# Altium footprint library J 接插件.PcbLib: 458 footprints (part 29 of 29)
Each footprint in its own frame and in the unit in brackets; x right, y up, seen from the top. Pads: shape width x height; smd on the part's side, far side on the other; paste and mask are expansions set on the pad; w line width, h text height; cw(c..) or ccw(c..) is an arc to the next point about the centre after c.
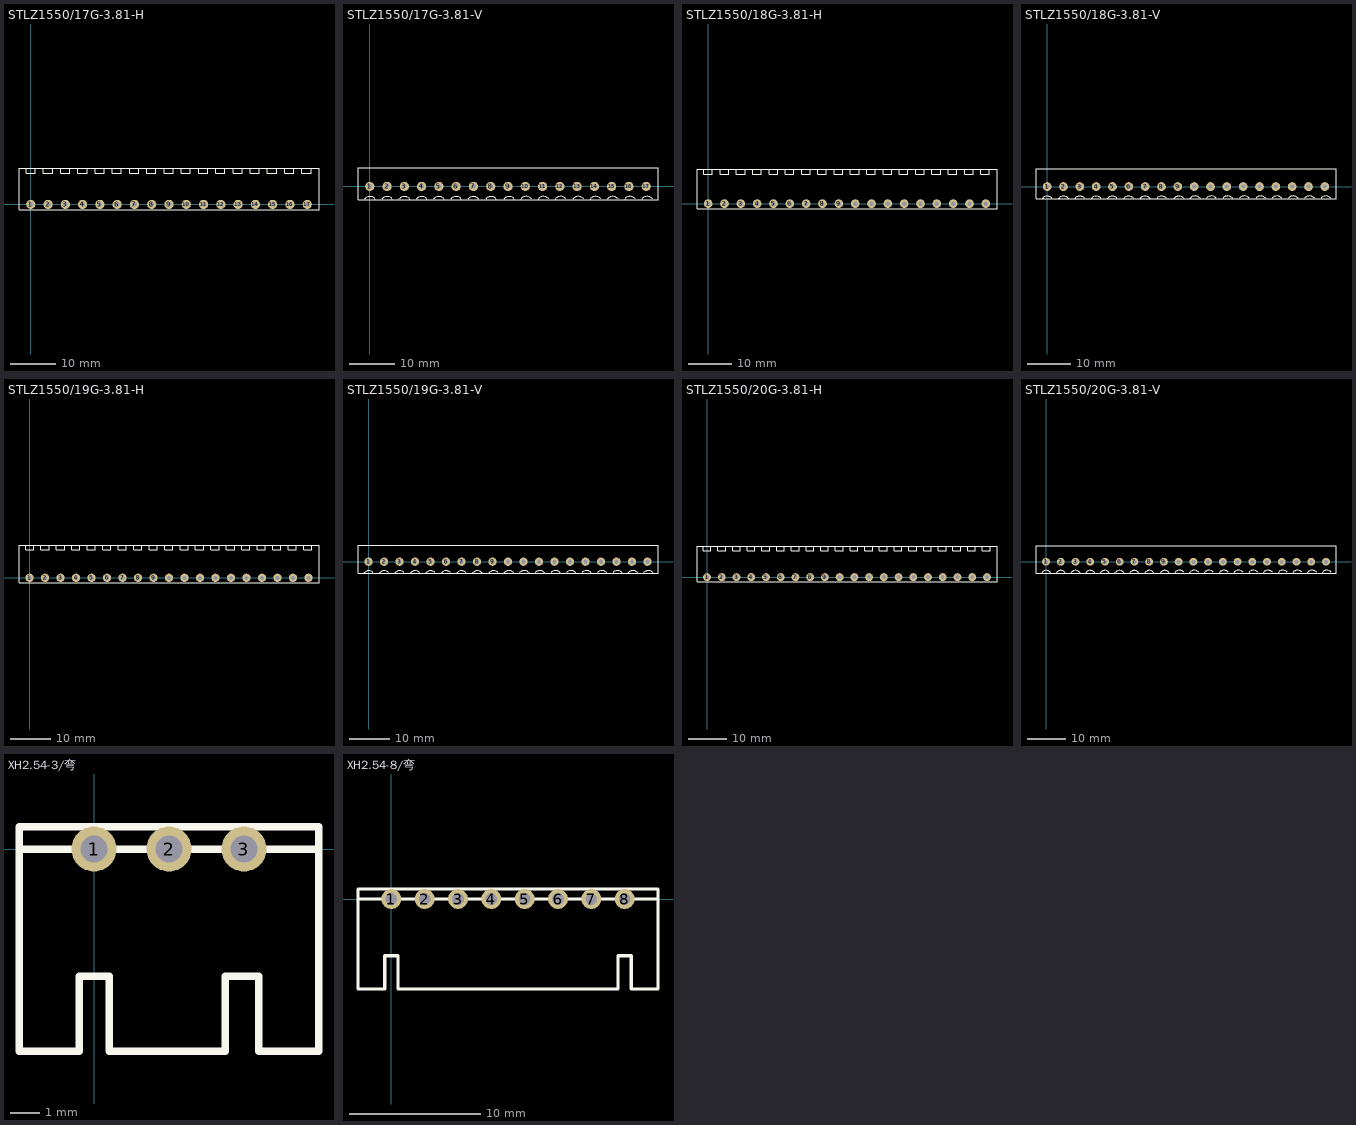
[diagram p28: the footprints below, top view; thin cyan lines are the x and y axes]

## STLZ1550/17G-3.81-H [mil] "美卡诺 STLZ1550 接触件座  间距：3.81   17Pin   弯角"
height 275.59
pads (17):
  round 80 hole 40: 1(0,0) 2(150,0) 3(300,0) 4(450,0) 5(600,0) 6(750,0) 7(900,0) 8(1050,0) 9(1200,0) 10(1350,0) 11(1500,0) 12(1650,0) 13(1800,0) 14(1950,0) 15(2100,0) 16(2250,0) 17(2400,0)
Top Overlay:
  lines w10: -39.37,311.26 -39.37,271.26 39.37,271.26 39.37,311.26 ; 110.24,311.26 110.24,271.26 188.98,271.26 188.98,311.26 ; 259.84,311.26 259.84,271.26 338.58,271.26 338.58,311.26 ; 409.45,311.26 409.45,271.26 488.19,271.26 488.19,311.26 ; 559.06,311.26 559.06,271.26 637.8,271.26 637.8,311.26 ; 708.66,311.26 708.66,271.26 787.4,271.26 787.4,311.26 ; 858.27,311.26 858.27,271.26 937.01,271.26 937.01,311.26 ; 1007.87,311.26 1007.87,271.26 1086.61,271.26 1086.61,311.26 ; 1157.48,311.26 1157.48,271.26 1236.22,271.26 1236.22,311.26 ; 1307.09,311.26 1307.09,271.26 1385.83,271.26 1385.83,311.26 ; 1456.69,311.26 1456.69,271.26 1535.43,271.26 1535.43,311.26 ; 1606.3,311.26 1606.3,271.26 1685.04,271.26 1685.04,311.26 ; 1755.91,311.26 1755.91,271.26 1834.65,271.26 1834.65,311.26 ; 1905.51,311.26 1905.51,271.26 1984.25,271.26 1984.25,311.26 ; 2055.12,311.26 2055.12,271.26 2133.86,271.26 2133.86,311.26 ; 2204.72,311.26 2204.72,271.26 2283.46,271.26 2283.46,311.26 ; 2354.33,311.26 2354.33,271.26 2433.07,271.26 2433.07,311.26 ; -102.36,-47.24 2502.36,-47.24 2502.36,314.96 -102.36,314.96 -102.36,-47.24

## STLZ1550/17G-3.81-V [mil] "美卡诺 STLZ1550 接触件座  间距：3.81   17Pin"
height 610.24
pads (17):
  round 80 hole 40: 1(0,0) 2(150,0) 3(300,0) 4(450,0) 5(600,0) 6(750,0) 7(900,0) 8(1050,0) 9(1200,0) 10(1350,0) 11(1500,0) 12(1650,0) 13(1800,0) 14(1950,0) 15(2100,0) 16(2250,0) 17(2400,0)
Top Overlay:
  lines w10: -46.11,-111.69 cw(c1.13,-147.13) 47.24,-110.24 ; 103.49,-111.69 cw(c150.74,-147.13) 196.85,-110.24 ; 253.1,-111.69 cw(c300.34,-147.13) 346.46,-110.24 ; 402.7,-111.69 cw(c449.95,-147.13) 496.06,-110.24 ; 552.31,-111.69 cw(c599.55,-147.13) 645.67,-110.24 ; 701.92,-111.69 cw(c749.16,-147.13) 795.28,-110.24 ; 851.52,-111.69 cw(c898.77,-147.13) 944.88,-110.24 ; 1005.07,-111.69 cw(c1052.31,-147.13) 1098.43,-110.24 ; 1162.55,-111.69 cw(c1209.79,-147.13) 1255.91,-110.24 ; 1310.97,-110.12 cw(c1358.22,-145.55) 1404.33,-108.66 ; 1460.58,-110.12 cw(c1507.82,-145.55) 1553.94,-108.66 ; 1610.18,-110.12 cw(c1657.43,-145.55) 1703.54,-108.66 ; 1763.73,-110.12 cw(c1810.97,-145.55) 1857.09,-108.66 ; 1913.33,-110.12 cw(c1960.58,-145.55) 2006.69,-108.66 ; 2062.94,-110.12 cw(c2110.18,-145.55) 2156.3,-108.66 ; 2212.55,-110.12 cw(c2259.79,-145.55) 2305.91,-108.66 ; 2362.15,-110.12 cw(c2409.4,-145.55) 2455.51,-108.66 ; -102.36,-114.17 2502.36,-114.17 2502.36,161.42 -102.36,161.42 -102.36,-114.17

## STLZ1550/18G-3.81-H [mil] "美卡诺 STLZ1550 接触件座  间距：3.81   18Pin   弯角"
height 275.59
pads (18):
  round 80 hole 40: 1(0,0) 2(150,0) 3(300,0) 4(450,0) 5(600,0) 6(750,0) 7(900,0) 8(1050,0) 9(1200,0) 10(1350,0) 11(1500,0) 12(1650,0) 13(1800,0) 14(1950,0) 15(2100,0) 16(2250,0) 17(2400,0) 18(2550,0)
Top Overlay:
  lines w10: -39.37,311.26 -39.37,271.26 39.37,271.26 39.37,311.26 ; 110.24,311.26 110.24,271.26 188.98,271.26 188.98,311.26 ; 259.84,311.26 259.84,271.26 338.58,271.26 338.58,311.26 ; 409.45,311.26 409.45,271.26 488.19,271.26 488.19,311.26 ; 559.06,311.26 559.06,271.26 637.8,271.26 637.8,311.26 ; 708.66,311.26 708.66,271.26 787.4,271.26 787.4,311.26 ; 858.27,311.26 858.27,271.26 937.01,271.26 937.01,311.26 ; 1007.87,311.26 1007.87,271.26 1086.61,271.26 1086.61,311.26 ; 1157.48,311.26 1157.48,271.26 1236.22,271.26 1236.22,311.26 ; 1307.09,311.26 1307.09,271.26 1385.83,271.26 1385.83,311.26 ; 1456.69,311.26 1456.69,271.26 1535.43,271.26 1535.43,311.26 ; 1606.3,311.26 1606.3,271.26 1685.04,271.26 1685.04,311.26 ; 1755.91,311.26 1755.91,271.26 1834.65,271.26 1834.65,311.26 ; 1905.51,311.26 1905.51,271.26 1984.25,271.26 1984.25,311.26 ; 2055.12,311.26 2055.12,271.26 2133.86,271.26 2133.86,311.26 ; 2204.72,311.26 2204.72,271.26 2283.46,271.26 2283.46,311.26 ; 2354.33,311.26 2354.33,271.26 2433.07,271.26 2433.07,311.26 ; 2503.94,311.26 2503.94,271.26 2582.68,271.26 2582.68,311.26 ; -102.36,-47.24 2652.36,-47.24 2652.36,314.96 -102.36,314.96 -102.36,-47.24

## STLZ1550/18G-3.81-V [mil] "美卡诺 STLZ1550 接触件座  间距：3.81   18Pin"
height 610.24
pads (18):
  round 80 hole 40: 1(0,0) 2(150,0) 3(300,0) 4(450,0) 5(600,0) 6(750,0) 7(900,0) 8(1050,0) 9(1200,0) 10(1350,0) 11(1500,0) 12(1650,0) 13(1800,0) 14(1950,0) 15(2100,0) 16(2250,0) 17(2400,0) 18(2550,0)
Top Overlay:
  lines w10: -46.11,-111.69 cw(c1.13,-147.13) 47.24,-110.24 ; 103.49,-111.69 cw(c150.74,-147.13) 196.85,-110.24 ; 253.1,-111.69 cw(c300.34,-147.13) 346.46,-110.24 ; 402.7,-111.69 cw(c449.95,-147.13) 496.06,-110.24 ; 552.31,-111.69 cw(c599.55,-147.13) 645.67,-110.24 ; 701.92,-111.69 cw(c749.16,-147.13) 795.28,-110.24 ; 851.52,-111.69 cw(c898.77,-147.13) 944.88,-110.24 ; 1005.07,-111.69 cw(c1052.31,-147.13) 1098.43,-110.24 ; 1162.55,-111.69 cw(c1209.79,-147.13) 1255.91,-110.24 ; 1310.97,-110.12 cw(c1358.22,-145.55) 1404.33,-108.66 ; 1460.58,-110.12 cw(c1507.82,-145.55) 1553.94,-108.66 ; 1610.18,-110.12 cw(c1657.43,-145.55) 1703.54,-108.66 ; 1763.73,-110.12 cw(c1810.97,-145.55) 1857.09,-108.66 ; 1913.33,-110.12 cw(c1960.58,-145.55) 2006.69,-108.66 ; 2062.94,-110.12 cw(c2110.18,-145.55) 2156.3,-108.66 ; 2212.55,-110.12 cw(c2259.79,-145.55) 2305.91,-108.66 ; 2362.15,-110.12 cw(c2409.4,-145.55) 2455.51,-108.66 ; 2511.76,-110.12 cw(c2559,-145.55) 2605.12,-108.66 ; -102.36,-114.17 -102.36,161.42 2652.36,161.42 2652.36,-114.17 -102.36,-114.17

## STLZ1550/19G-3.81-H [mil] "美卡诺 STLZ1550 接触件座  间距：3.81   19Pin   弯角"
height 275.59
pads (19):
  round 80 hole 40: 1(0,0) 2(150,0) 3(300,0) 4(450,0) 5(600,0) 6(750,0) 7(900,0) 8(1050,0) 9(1200,0) 10(1350,0) 11(1500,0) 12(1650,0) 13(1800,0) 14(1950,0) 15(2100,0) 16(2250,0) 17(2400,0) 18(2550,0) 19(2700,0)
Top Overlay:
  lines w10: -39.37,311.26 -39.37,271.26 39.37,271.26 39.37,311.26 ; 110.24,311.26 110.24,271.26 188.98,271.26 188.98,311.26 ; 259.84,311.26 259.84,271.26 338.58,271.26 338.58,311.26 ; 409.45,311.26 409.45,271.26 488.19,271.26 488.19,311.26 ; 559.06,311.26 559.06,271.26 637.8,271.26 637.8,311.26 ; 708.66,311.26 708.66,271.26 787.4,271.26 787.4,311.26 ; 858.27,311.26 858.27,271.26 937.01,271.26 937.01,311.26 ; 1007.87,311.26 1007.87,271.26 1086.61,271.26 1086.61,311.26 ; 1157.48,311.26 1157.48,271.26 1236.22,271.26 1236.22,311.26 ; 1307.09,311.26 1307.09,271.26 1385.83,271.26 1385.83,311.26 ; 1456.69,311.26 1456.69,271.26 1535.43,271.26 1535.43,311.26 ; 1606.3,311.26 1606.3,271.26 1685.04,271.26 1685.04,311.26 ; 1755.91,311.26 1755.91,271.26 1834.65,271.26 1834.65,311.26 ; 1905.51,311.26 1905.51,271.26 1984.25,271.26 1984.25,311.26 ; 2055.12,311.26 2055.12,271.26 2133.86,271.26 2133.86,311.26 ; 2204.72,311.26 2204.72,271.26 2283.46,271.26 2283.46,311.26 ; 2354.33,311.26 2354.33,271.26 2433.07,271.26 2433.07,311.26 ; 2503.94,311.26 2503.94,271.26 2582.68,271.26 2582.68,311.26 ; 2653.54,311.26 2653.54,271.26 2732.28,271.26 2732.28,311.26 ; -102.36,-47.24 2802.36,-47.24 2802.36,314.96 -102.36,314.96 -102.36,-47.24

## STLZ1550/19G-3.81-V [mil] "美卡诺 STLZ1550 接触件座  间距：3.81   19Pin"
height 610.24
pads (19):
  round 80 hole 40: 1(0,0) 2(150,0) 3(300,0) 4(450,0) 5(600,0) 6(750,0) 7(900,0) 8(1050,0) 9(1200,0) 10(1350,0) 11(1500,0) 12(1650,0) 13(1800,0) 14(1950,0) 15(2100,0) 16(2250,0) 17(2400,0) 18(2550,0) 19(2700,0)
Top Overlay:
  lines w10: -46.11,-111.69 cw(c1.13,-147.13) 47.24,-110.24 ; 103.49,-111.69 cw(c150.74,-147.13) 196.85,-110.24 ; 253.1,-111.69 cw(c300.34,-147.13) 346.46,-110.24 ; 402.7,-111.69 cw(c449.95,-147.13) 496.06,-110.24 ; 552.31,-111.69 cw(c599.55,-147.13) 645.67,-110.24 ; 701.92,-111.69 cw(c749.16,-147.13) 795.28,-110.24 ; 851.52,-111.69 cw(c898.77,-147.13) 944.88,-110.24 ; 1005.07,-111.69 cw(c1052.31,-147.13) 1098.43,-110.24 ; 1162.55,-111.69 cw(c1209.79,-147.13) 1255.91,-110.24 ; 1310.97,-110.12 cw(c1358.22,-145.55) 1404.33,-108.66 ; 1460.58,-110.12 cw(c1507.82,-145.55) 1553.94,-108.66 ; 1610.18,-110.12 cw(c1657.43,-145.55) 1703.54,-108.66 ; 1763.73,-110.12 cw(c1810.97,-145.55) 1857.09,-108.66 ; 1913.33,-110.12 cw(c1960.58,-145.55) 2006.69,-108.66 ; 2062.94,-110.12 cw(c2110.18,-145.55) 2156.3,-108.66 ; 2212.55,-110.12 cw(c2259.79,-145.55) 2305.91,-108.66 ; 2362.15,-110.12 cw(c2409.4,-145.55) 2455.51,-108.66 ; 2511.76,-110.12 cw(c2559,-145.55) 2605.12,-108.66 ; 2661.37,-110.12 cw(c2708.61,-145.55) 2754.72,-108.66 ; -102.36,-114.17 -102.36,161.42 2802.36,161.42 2802.36,-114.17 -102.36,-114.17

## STLZ1550/20G-3.81-H [mil] "美卡诺 STLZ1550 接触件座  间距：3.81   20Pin   弯角"
height 275.59
pads (20):
  round 80 hole 40: 1(0,0) 2(150,0) 3(300,0) 4(450,0) 5(600,0) 6(750,0) 7(900,0) 8(1050,0) 9(1200,0) 10(1350,0) 11(1500,0) 12(1650,0) 13(1800,0) 14(1950,0) 15(2100,0) 16(2250,0) 17(2400,0) 18(2550,0) 19(2700,0) 20(2850,0)
Top Overlay:
  lines w10: -39.37,311.26 -39.37,271.26 39.37,271.26 39.37,311.26 ; 110.24,311.26 110.24,271.26 188.98,271.26 188.98,311.26 ; 259.84,311.26 259.84,271.26 338.58,271.26 338.58,311.26 ; 409.45,311.26 409.45,271.26 488.19,271.26 488.19,311.26 ; 559.06,311.26 559.06,271.26 637.8,271.26 637.8,311.26 ; 708.66,311.26 708.66,271.26 787.4,271.26 787.4,311.26 ; 858.27,311.26 858.27,271.26 937.01,271.26 937.01,311.26 ; 1007.87,311.26 1007.87,271.26 1086.61,271.26 1086.61,311.26 ; 1157.48,311.26 1157.48,271.26 1236.22,271.26 1236.22,311.26 ; 1307.09,311.26 1307.09,271.26 1385.83,271.26 1385.83,311.26 ; 1456.69,311.26 1456.69,271.26 1535.43,271.26 1535.43,311.26 ; 1606.3,311.26 1606.3,271.26 1685.04,271.26 1685.04,311.26 ; 1755.91,311.26 1755.91,271.26 1834.65,271.26 1834.65,311.26 ; 1905.51,311.26 1905.51,271.26 1984.25,271.26 1984.25,311.26 ; 2055.12,311.26 2055.12,271.26 2133.86,271.26 2133.86,311.26 ; 2204.72,311.26 2204.72,271.26 2283.46,271.26 2283.46,311.26 ; 2354.33,311.26 2354.33,271.26 2433.07,271.26 2433.07,311.26 ; 2503.94,311.26 2503.94,271.26 2582.68,271.26 2582.68,311.26 ; 2653.54,311.26 2653.54,271.26 2732.28,271.26 2732.28,311.26 ; 2803.15,311.26 2803.15,271.26 2881.89,271.26 2881.89,311.26 ; -102.36,-47.24 2952.36,-47.24 2952.36,314.96 -102.36,314.96 -102.36,-47.24

## STLZ1550/20G-3.81-V [mil] "美卡诺 STLZ1550 接触件座  间距：3.81   20Pin"
height 610.24
pads (20):
  round 80 hole 40: 1(0,0) 2(150,0) 3(300,0) 4(450,0) 5(600,0) 6(750,0) 7(900,0) 8(1050,0) 9(1200,0) 10(1350,0) 11(1500,0) 12(1650,0) 13(1800,0) 14(1950,0) 15(2100,0) 16(2250,0) 17(2400,0) 18(2550,0) 19(2700,0) 20(2850,0)
Top Overlay:
  lines w10: -46.11,-111.69 cw(c1.13,-147.13) 47.24,-110.24 ; 103.49,-111.69 cw(c150.74,-147.13) 196.85,-110.24 ; 253.1,-111.69 cw(c300.34,-147.13) 346.46,-110.24 ; 402.7,-111.69 cw(c449.95,-147.13) 496.06,-110.24 ; 552.31,-111.69 cw(c599.55,-147.13) 645.67,-110.24 ; 701.92,-111.69 cw(c749.16,-147.13) 795.28,-110.24 ; 851.52,-111.69 cw(c898.77,-147.13) 944.88,-110.24 ; 1005.07,-111.69 cw(c1052.31,-147.13) 1098.43,-110.24 ; 1162.55,-111.69 cw(c1209.79,-147.13) 1255.91,-110.24 ; 1310.97,-110.12 cw(c1358.22,-145.55) 1404.33,-108.66 ; 1460.58,-110.12 cw(c1507.82,-145.55) 1553.94,-108.66 ; 1610.18,-110.12 cw(c1657.43,-145.55) 1703.54,-108.66 ; 1763.73,-110.12 cw(c1810.97,-145.55) 1857.09,-108.66 ; 1913.33,-110.12 cw(c1960.58,-145.55) 2006.69,-108.66 ; 2062.94,-110.12 cw(c2110.18,-145.55) 2156.3,-108.66 ; 2212.55,-110.12 cw(c2259.79,-145.55) 2305.91,-108.66 ; 2362.15,-110.12 cw(c2409.4,-145.55) 2455.51,-108.66 ; 2511.76,-110.12 cw(c2559,-145.55) 2605.12,-108.66 ; 2661.37,-110.12 cw(c2708.61,-145.55) 2754.72,-108.66 ; 2810.97,-110.12 cw(c2858.22,-145.55) 2904.33,-108.66 ; -102.36,-114.17 2952.36,-114.17 2952.36,161.42 -102.36,161.42 -102.36,-114.17

## XH2.54-3/弯 [mil]
pads (3):
  round 60 hole 35.43: 1(0,0) 2(100,0) 3(200,0)
Top Overlay:
  lines w10: -100,0 300,0 ; -100,0 -100,-270 -20,-270 -20,-170 20,-170 20,-270 175,-270 175,-170 220,-170 220,-270 300,-270 300,0 ; -100,0 -100,30 300,30 300,0

## XH2.54-8/弯 [mil]
pads (8):
  round 60 hole 35.43: 1(0,0) 2(100,0) 3(200,0) 4(300,0) 5(400,0) 6(500,0) 7(600,0) 8(700,0)
Top Overlay:
  lines w10: -100,0 -100,30 800,30 800,0 ; -100,0 -100,-270 -20,-270 -20,-170 20,-170 20,-270 680,-270 680,-170 720,-170 720,-270 800,-270 800,0 ; -100,0 800,0